# EAGLE library part ADXL345 (library analog-devices)
Digital Accelerometer
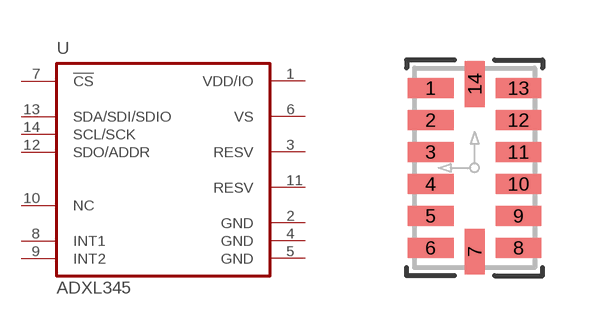
[diagram p45: symbol with the pads of LGA14; footprint LGA14]

Designator prefix U

## ADXL345  [LGA14]
1  VDD/IO
2  GND
3  RESV  nc
4  GND
5  GND
6  VS
7  !CS!  in
8  INT1  out
9  INT2  out
10  NC  nc
11  RESV  nc
12  SDO/ADDR
13  SDA/SDI/SDIO
14  SCL/SCK

## Footprint LGA14 (pad centres in mm)
LGA-14 body 3mm x 5mm
smd 1.145 x 0.5: 1 -1.097,2; 2 -1.097,1.2; 3 -1.097,0.4; 4 -1.097,-0.4; 5 -1.097,-1.2; 6 -1.097,-2; 8 1.097,-2; 9 1.097,-1.2; 10 1.097,-0.4; 11 1.097,0.4; 12 1.097,1.2; 13 1.097,2
smd 0.5 x 1.145: 7 0,-2.098; 14 0,2.098